# Altium footprint library SS12FP.PcbLib: 1 footprints
Each footprint in its own frame and in the unit in brackets; x right, y up, seen from the top. Pads: shape width x height; smd on the part's side, far side on the other; paste and mask are expansions set on the pad; w line width, h text height; cw(c..) or ccw(c..) is an arc to the next point about the centre after c.
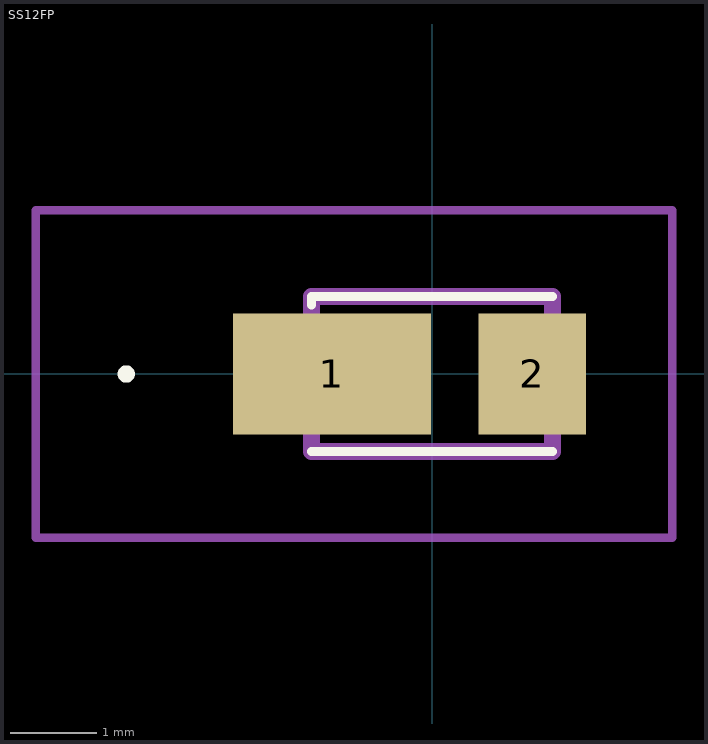
[diagram p0: the footprint, top view; thin cyan lines are the x and y axes]

## SS12FP [mm]
pads (2):
  rect 2.3x1.4 smd: 1(-1.163,0)
  rect 1.25x1.4 smd: 2(1.163,0)
Top Overlay:
  lines w0.1: -1.4,-0.9 1.4,-0.9 ; -1.4,0.8 -1.4,0.9 1.4,0.9 ; -3.6,0 -3.6,0 ; -3.6,0 ccw(c-3.55,0) -3.5,0 ; -3.6,0 cw(c-3.55,0) -3.5,0 ; -3.5,0 -3.5,0
Mechanical 15:
  lines w0.2: -1.4,-0.9 1.4,-0.9 1.4,0.9 -1.4,0.9 -1.4,-0.9
Mechanical 20:
  lines w0.1: -4.6,-1.9 2.788,-1.9 2.788,1.9 -4.6,1.9 -4.6,-1.9